# Altium schematic symbol library 遥控器主板.SchLib: 2 symbols
Pins are listed as number, name and electrical type; pins without a type are passive.

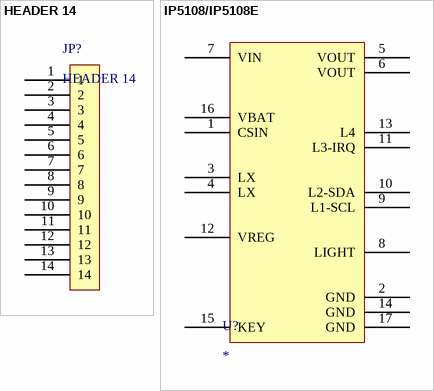
[diagram p0: symbols HEADER 14 to IP5108/IP5108E]

## HEADER 14
designator JP?
卧贴 14PIN 1.25mm
pins: 1, 2, 3, 4, 5, 6, 7, 8, 9, 10, 11, 12, 13, 14

## IP5108/IP5108E
designator U?
2A/1A Charger SoC
footprint SOP16_PWR (SOP, 16-Leads, Body 9.90x3.90mm, Pitch 1.27mm, IPC Medium Density)
pins: 1 CSIN, 2 GND, 3 LX, 4 LX, 5 VOUT, 6 VOUT, 7 VIN, 8 LIGHT, 9 L1-SCL, 10 L2-SDA, 11 L3-IRQ, 12 VREG, 13 L4, 14 GND, 15 KEY, 16 VBAT, 17 GND